# Altium footprint library DPAK_N.PcbLib: 40 footprints (part 2 of 3)
Each footprint in its own frame and in the unit in brackets; x right, y up, seen from the top. Pads: shape width x height; smd on the part's side, far side on the other; paste and mask are expansions set on the pad; w line width, h text height; cw(c..) or ccw(c..) is an arc to the next point about the centre after c.
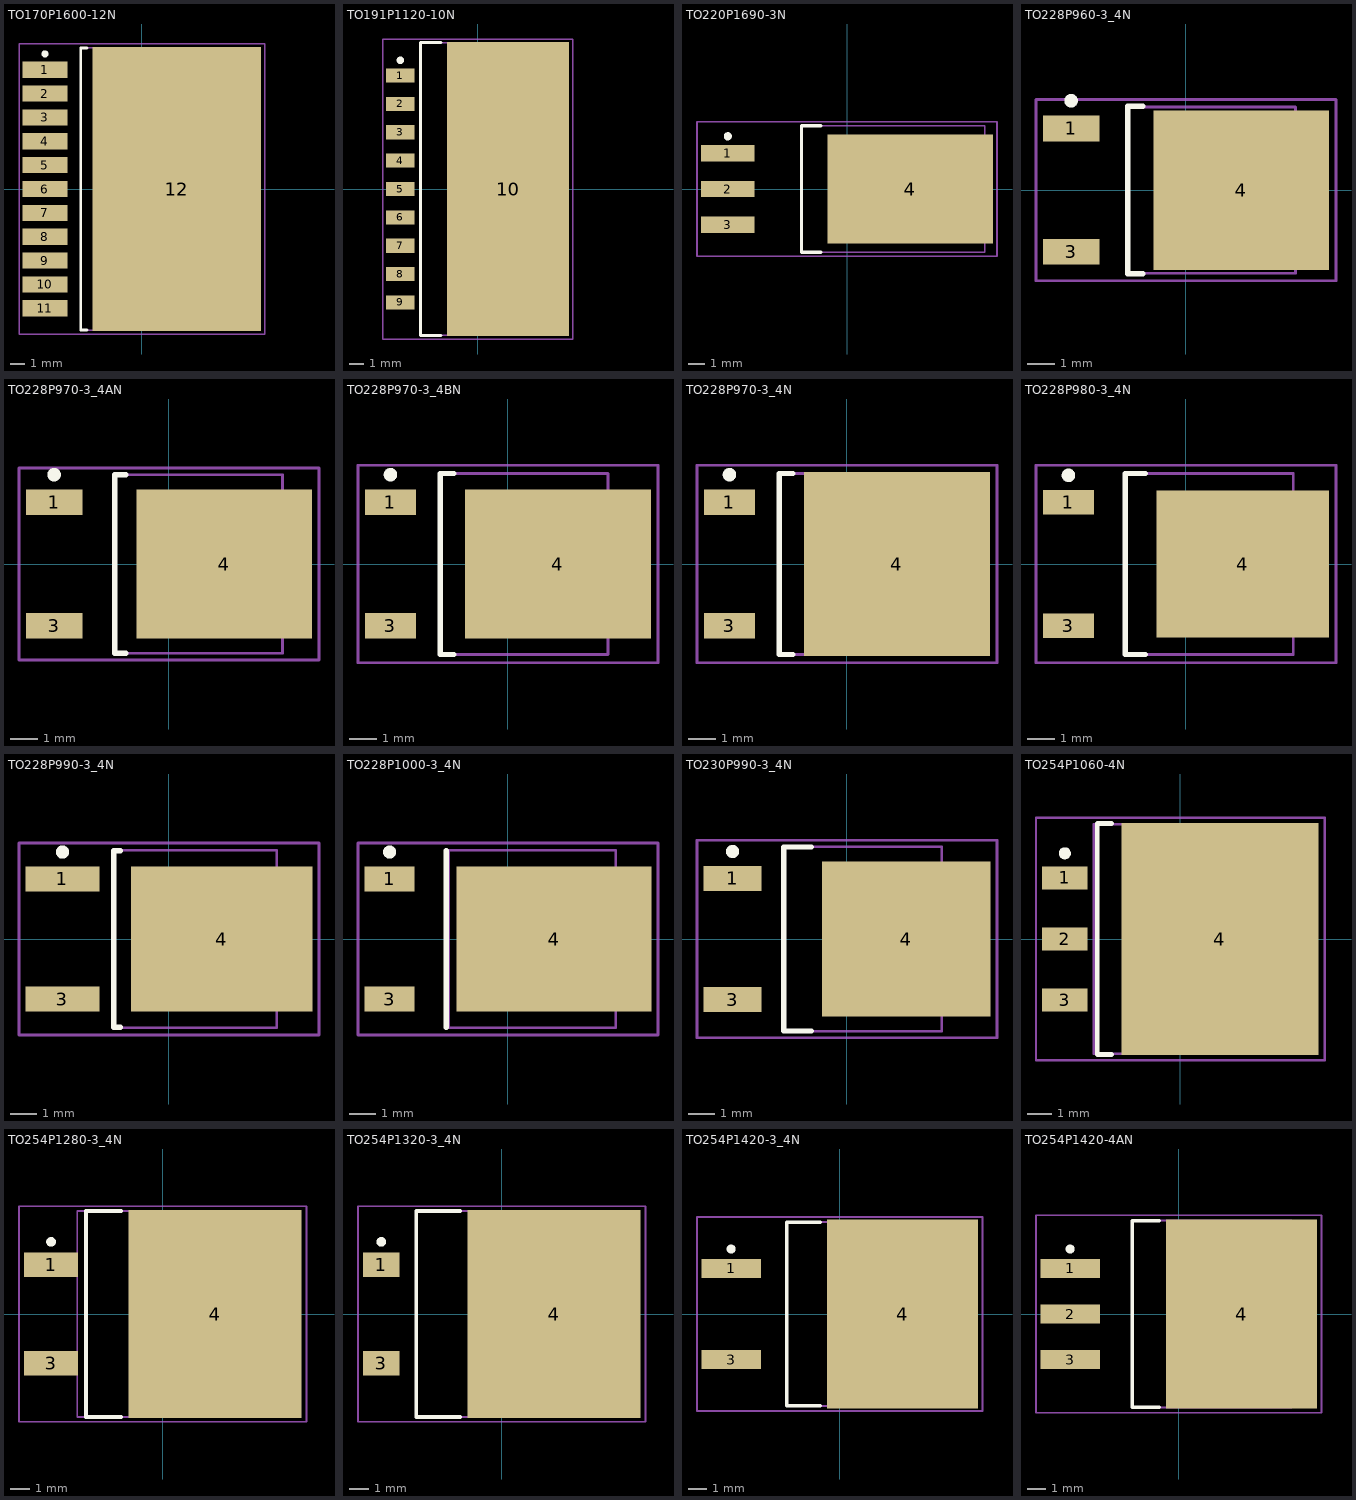
[diagram p1: the footprints below, top view; thin cyan lines are the x and y axes]

## TO170P1600-12N [mm] "TO, 12-Leads, Body 10.7x20mm, Pitch 1.7mm, Lead Span 16mm, IPC Medium Density"
height 4.65
pads (12):
  rect 3.2x1.15 smd: 1(-6.9,8.5) 2(-6.9,6.8) 3(-6.9,5.1) 4(-6.9,3.4) 5(-6.9,1.7) 6(-6.9,0) 7(-6.9,-1.7) 8(-6.9,-3.4) 9(-6.9,-5.1) 10(-6.9,-6.8) 11(-6.9,-8.5)
  rect 12x20.25 smd: 12(2.5,0)
Top Overlay:
  circle w0.25: c-6.9,9.625 r0.125
  lines w0.2: -3.9,-10.05 -4.35,-10.05 -4.35,10.05 -3.9,10.05
Mechanical 13:
  lines w0.1: -4.35,-10.075 6.47,-10.075 6.47,10.075 -4.35,10.075 -4.35,-10.075
Mechanical 15:
  lines w0.1: -0.5,0 0.5,0 ; 0,-0.5 0,0.5 ; -8.75,-10.35 8.75,-10.35 8.75,10.35 -8.75,10.35 -8.75,-10.35
3D body: height 4.65, standoff 0, extent -4.35,-10.075 6.47,10.075

## TO191P1120-10N [mm] "TO, 10-Leads, Body 8.7x19.6mm, Pitch 1.91mm, Lead Span 11.2mm, IPC Medium Density"
height 2.05
pads (10):
  rect 1.9x0.95 smd: 1(-5.2,7.64) 2(-5.2,5.73) 3(-5.2,3.82) 4(-5.2,1.91) 5(-5.2,0) 6(-5.2,-1.91) 7(-5.2,-3.82) 8(-5.2,-5.73) 9(-5.2,-7.64)
  rect 8.2x19.8 smd: 10(2.05,0)
Top Overlay:
  circle w0.25: c-5.2,8.665 r0.125
  lines w0.2: -2.45,-9.85 -3.85,-9.85 -3.85,9.85 -2.45,9.85
Mechanical 13:
  lines w0.1: -3.85,-9.85 -3.85,9.85 4.95,9.85 4.95,-9.85 -3.85,-9.85
Mechanical 15:
  lines w0.1: -0.5,0 0.5,0 ; 0,-0.5 0,0.5 ; -6.4,-10.1 -6.4,10.1 6.4,10.1 6.4,-10.1 -6.4,-10.1
3D body: height 2.05, standoff 0, extent -3.85,-9.85 4.95,9.85

## TO220P1690-3N [mm] "Single-Ended SM Package, 3-Leads, Body 10.9x7.6mm, Pitch 2.2mm, Lead Span 16.9mm, IPC Medium Density"
height 2.7
pads (4):
  rect 3.3x1 smd: 1(-7.35,2.2) 2(-7.35,0) 3(-7.35,-2.2)
  rect 10.2x6.7 smd: 4(3.9,0)
Top Overlay:
  circle w0.25: c-7.35,3.25 r0.125
  lines w0.2: -1.6,-3.9 -2.8,-3.9 -2.8,3.9 -1.6,3.9
Mechanical 13:
  lines w0.1: -2.8,-3.9 8.5,-3.9 8.5,3.9 -2.8,3.9 -2.8,-3.9
Mechanical 15:
  lines w0.1: -0.5,0 0.5,0 ; 0,-0.5 0,0.5 ; -9.25,-4.15 9.25,-4.15 9.25,4.15 -9.25,4.15 -9.25,-4.15
3D body: height 2.7, standoff 0, extent -2.8,-3.9 8.5,3.9

## TO228P960-3_4N [mm] "D-PAK, 4-Leads, Body 6.1x6mm, Pitch 2.28mm, Lead Span 9.7mm, IPC Medium Density"
height 2.03
pads (3):
  rect 2.1x0.95 smd: 1(-4.25,2.28) 3(-4.25,-2.28)
  rect 6.5x5.9 smd: 4(2.05,0)
Top Overlay:
  circle w0.25: c-4.25,3.305 r0.125
  lines w0.2: -1.6,-3.1 -2.15,-3.1 -2.15,3.1 -1.6,3.1
Mechanical 13:
  lines w0.1: -2.15,-3.075 4.05,-3.075 4.05,3.075 -2.15,3.075 -2.15,-3.075
Mechanical 15:
  lines w0.1: -0.5,0 0.5,0 ; 0,-0.5 0,0.5 ; -5.55,-3.35 5.55,-3.35 5.55,3.35 -5.55,3.35 -5.55,-3.35
3D body: height 2.03, standoff 0, extent -2.15,-3.075 4.05,3.075

## TO228P970-3_4AN [mm] "D-PAK, 4-Leads, Body 6.1x6.5mm, Pitch 2.28mm, Lead Span 9.7mm, IPC Medium Density"
height 2.4
pads (3):
  rect 2.1x0.95 smd: 1(-4.25,2.28) 3(-4.25,-2.28)
  rect 6.5x5.5 smd: 4(2.05,0)
Top Overlay:
  circle w0.25: c-4.25,3.305 r0.125
  lines w0.2: -1.6,-3.3 -2,-3.3 -2,3.3 -1.6,3.3
Mechanical 13:
  lines w0.1: -2,-3.3 4.2,-3.3 4.2,3.3 -2,3.3 -2,-3.3
Mechanical 15:
  lines w0.1: -0.5,0 0.5,0 ; 0,-0.5 0,0.5 ; -5.55,-3.55 5.55,-3.55 5.55,3.55 -5.55,3.55 -5.55,-3.55
3D body: height 2.4, standoff 0, extent -2,-3.3 4.2,3.3

## TO228P970-3_4BN [mm] "D-PAK, 4-Leads, Body 6.1x6.6mm, Pitch 2.29mm, Lead Span 9.7mm, IPC Medium Density"
height 2.38
pads (3):
  rect 1.9x0.95 smd: 1(-4.35,2.28) 3(-4.35,-2.28)
  rect 6.9x5.5 smd: 4(1.85,0)
Top Overlay:
  circle w0.25: c-4.35,3.305 r0.125
  lines w0.2: -2,-3.35 -2.5,-3.35 -2.5,3.35 -2,3.35
Mechanical 13:
  lines w0.1: -2.5,-3.35 3.7,-3.35 3.7,3.35 -2.5,3.35 -2.5,-3.35
Mechanical 15:
  lines w0.1: -0.5,0 0.5,0 ; 0,-0.5 0,0.5 ; -5.55,-3.65 5.55,-3.65 5.55,3.65 -5.55,3.65 -5.55,-3.65
3D body: height 2.38, standoff 0, extent -2.499,-3.349 3.699,3.349

## TO228P970-3_4N [mm] "D-PAK, 4-Leads, Body 6.1x6.5mm, Pitch 2.28mm, Lead Span 9.7mm, IPC Medium Density"
height 2.38
pads (3):
  rect 1.9x0.95 smd: 1(-4.35,2.28) 3(-4.35,-2.28)
  rect 6.9x6.8 smd: 4(1.85,0)
Top Overlay:
  circle w0.25: c-4.35,3.305 r0.125
  lines w0.2: -2,-3.35 -2.5,-3.35 -2.5,3.35 -2,3.35
Mechanical 13:
  lines w0.1: -2.5,-3.35 3.7,-3.35 3.7,3.35 -2.5,3.35 -2.5,-3.35
Mechanical 15:
  lines w0.1: -0.5,0 0.5,0 ; 0,-0.5 0,0.5 ; -5.55,-3.65 5.55,-3.65 5.55,3.65 -5.55,3.65 -5.55,-3.65
3D body: height 2.38, standoff 0, extent -2.5,-3.35 3.7,3.35

## TO228P980-3_4N [mm] "D-PAK, 4-Leads, Body 6.1x6.6mm, Pitch 2.28mm, Lead Span 9.8mm, IPC Medium Density"
height 2.38
pads (3):
  rect 1.9x0.9 smd: 1(-4.35,2.28) 3(-4.35,-2.28)
  rect 6.4x5.45 smd: 4(2.1,0)
Top Overlay:
  circle w0.25: c-4.35,3.28 r0.125
  lines w0.2: -1.5,-3.35 -2.25,-3.35 -2.25,3.35 -1.5,3.35
Mechanical 13:
  lines w0.1: -2.25,-3.35 3.97,-3.35 3.97,3.35 -2.25,3.35 -2.25,-3.35
Mechanical 15:
  lines w0.1: -0.5,0 0.5,0 ; 0,-0.5 0,0.5 ; -5.55,-3.65 5.55,-3.65 5.55,3.65 -5.55,3.65 -5.55,-3.65
3D body: height 2.38, standoff 0, extent -2.25,-3.35 3.97,3.35

## TO228P990-3_4N [mm] "D-PAK, 4-Leads, Body 6.1x6.5mm, Pitch 2.28mm, Lead Span 9.9mm, IPC Medium Density"
height 2.39
pads (3):
  rect 2.8x0.95 smd: 1(-4.05,2.28) 3(-4.05,-2.28)
  rect 6.9x5.5 smd: 4(2,0)
Top Overlay:
  circle w0.25: c-4.05,3.305 r0.125
  lines w0.2: -1.85,-3.35 -2.1,-3.35 -2.1,3.35 -1.85,3.35
Mechanical 13:
  lines w0.1: -2.1,-3.375 4.1,-3.375 4.1,3.375 -2.1,3.375 -2.1,-3.375
Mechanical 15:
  lines w0.1: -0.5,0 0.5,0 ; 0,-0.5 0,0.5 ; -5.7,-3.65 5.7,-3.65 5.7,3.65 -5.7,3.65 -5.7,-3.65
3D body: height 2.39, standoff 0, extent -2.1,-3.375 4.1,3.375

## TO228P1000-3_4N [mm] "D-PAK, 4-Leads, Body 6.2x6.5mm, Pitch 2.28mm, Lead Span 9.9mm, IPC Medium Density"
height 2.39
pads (3):
  rect 1.9x0.95 smd: 1(-4.5,2.28) 3(-4.5,-2.28)
  rect 7.4x5.5 smd: 4(1.75,0)
Top Overlay:
  circle w0.25: c-4.5,3.305 r0.125
  lines w0.2: -2.35,-3.35 -2.35,3.35
Mechanical 13:
  lines w0.1: -2.25,-3.375 4.1,-3.375 4.1,3.375 -2.25,3.375 -2.25,-3.375
Mechanical 15:
  lines w0.1: -0.5,0 0.5,0 ; 0,-0.5 0,0.5 ; -5.7,-3.65 5.7,-3.65 5.7,3.65 -5.7,3.65 -5.7,-3.65
3D body: height 2.39, standoff 0, extent -2.25,-3.375 4.1,3.375

## TO230P990-3_4N [mm] "D-PAK, 4-Leads, Body 6x7mm, Pitch 2.3mm, Lead Span 9.9mm, IPC Medium Density"
height 2.8
pads (3):
  rect 2.2x0.95 smd: 1(-4.35,2.3) 3(-4.35,-2.3)
  rect 6.4x5.9 smd: 4(2.25,0)
Top Overlay:
  circle w0.25: c-4.35,3.325 r0.125
  lines w0.2: -1.35,-3.5 -2.4,-3.5 -2.4,3.5 -1.35,3.5
Mechanical 13:
  lines w0.1: -2.4,-3.5 3.6,-3.5 3.6,3.5 -2.4,3.5 -2.4,-3.5
Mechanical 15:
  lines w0.1: -0.5,0 0.5,0 ; 0,-0.5 0,0.5 ; -5.7,-3.75 5.7,-3.75 5.7,3.75 -5.7,3.75 -5.7,-3.75
3D body: height 2.8, standoff 0, extent -2.4,-3.5 3.6,3.5

## TO254P1060-4N [mm] "D-PAK, 4-Leads, Body 8x9.4mm, Pitch 2.54mm, Lead Span 10.6mm, IPC Medium Density"
height 2.05
pads (4):
  rect 1.9x0.95 smd: 1(-4.8,2.54) 2(-4.8,0) 3(-4.8,-2.54)
  rect 8.2x9.65 smd: 4(1.65,0)
Top Overlay:
  circle w0.25: c-4.8,3.565 r0.125
  lines w0.2: -2.85,-4.8 -3.45,-4.8 -3.45,4.8 -2.85,4.8
Mechanical 13:
  lines w0.1: -3.6,-4.775 4.55,-4.775 4.55,4.775 -3.6,4.775 -3.6,-4.775
Mechanical 15:
  lines w0.1: -0.5,0 0.5,0 ; 0,-0.5 0,0.5 ; -6,-5.05 6,-5.05 6,5.05 -6,5.05 -6,-5.05
3D body: height 2.05, standoff 0, extent -3.6,-4.775 4.55,4.775

## TO254P1280-3_4N [mm] "TO, 4-Leads, Body 9.6x10.2mm, Pitch 2.54mm, Lead Span 12.8mm, IPC Medium Density"
height 5.1
pads (3):
  rect 2.8x1.25 smd: 1(-5.75,2.54) 3(-5.75,-2.54)
  rect 8.9x10.7 smd: 4(2.7,0)
Top Overlay:
  circle w0.25: c-5.75,3.715 r0.125
  lines w0.2: -2.15,-5.3 -3.95,-5.3 -3.95,5.3 -2.15,5.3
Mechanical 13:
  lines w0.1: -4.4,-5.3 5.2,-5.3 5.2,5.3 -4.4,5.3 -4.4,-5.3
Mechanical 15:
  lines w0.1: -0.5,0 0.5,0 ; 0,-0.5 0,0.5 ; -7.4,-5.55 7.4,-5.55 7.4,5.55 -7.4,5.55 -7.4,-5.55
3D body: height 5.1, standoff 0, extent -4.4,-5.3 5.2,5.3

## TO254P1320-3_4N [mm] "TO, 4-Leads, Body 9.6x10.2mm, Pitch 2.54mm, Lead Span 13.2mm, IPC Medium Density"
height 5.1
pads (3):
  rect 1.9x1.25 smd: 1(-6.2,2.54) 3(-6.2,-2.54)
  rect 8.9x10.7 smd: 4(2.7,0)
Top Overlay:
  circle w0.25: c-6.2,3.715 r0.125
  lines w0.2: -2.15,-5.3 -4.4,-5.3 -4.4,5.3 -2.15,5.3
Mechanical 13:
  lines w0.1: -4.4,-5.3 5.2,-5.3 5.2,5.3 -4.4,5.3 -4.4,-5.3
Mechanical 15:
  lines w0.1: -0.5,0 0.5,0 ; 0,-0.5 0,0.5 ; -7.4,-5.55 7.4,-5.55 7.4,5.55 -7.4,5.55 -7.4,-5.55
3D body: height 5.1, standoff 0, extent -4.4,-5.3 5.2,5.3

## TO254P1420-3_4N [mm] "D2-PAK, 4-Leads, Body 9.2x10mm, Pitch 2.54mm, Lead Span 14.2mm, IPC Medium Density"
height 4.57
pads (3):
  rect 3.3x1.05 smd: 1(-6.05,2.54) 3(-6.05,-2.54)
  rect 8.4x10.5 smd: 4(3.5,0)
Top Overlay:
  circle w0.25: c-6.05,3.615 r0.125
  lines w0.2: -1.1,-5.1 -2.95,-5.1 -2.95,5.1 -1.1,5.1
Mechanical 13:
  lines w0.1: -2.95,-5.125 -2.95,5.125 6.4,5.125 6.4,-5.125 -2.95,-5.125
Mechanical 15:
  lines w0.1: -0.5,0 0.5,0 ; 0,-0.5 0,0.5 ; -7.95,-5.4 -7.95,5.4 7.95,5.4 7.95,-5.4 -7.95,-5.4
3D body: height 4.57, standoff 0, extent -2.95,-5.125 6.4,5.125

## TO254P1420-4AN [mm] "D2-PAK, 4-Leads, Body 8.6x10.2mm, Pitch 2.54mm, Lead Span 14.2mm, IPC Medium Density"
height 4.64
pads (4):
  rect 3.3x1.05 smd: 1(-6.05,2.54) 2(-6.05,0) 3(-6.05,-2.54)
  rect 8.4x10.5 smd: 4(3.5,0)
Top Overlay:
  circle w0.25: c-6.05,3.615 r0.125
  lines w0.2: -1.1,-5.2 -2.6,-5.2 -2.6,5.2 -1.1,5.2
Mechanical 13:
  lines w0.1: -2.6,-5.2 6.29,-5.2 6.29,5.2 -2.6,5.2 -2.6,-5.2
Mechanical 15:
  lines w0.1: -0.5,0 0.5,0 ; 0,-0.5 0,0.5 ; -7.95,-5.5 7.95,-5.5 7.95,5.5 -7.95,5.5 -7.95,-5.5
3D body: height 4.64, standoff 0, extent -2.599,-5.199 6.289,5.199